# EAGLE library part SPBTLE-RF (library circuit_tree)
IC
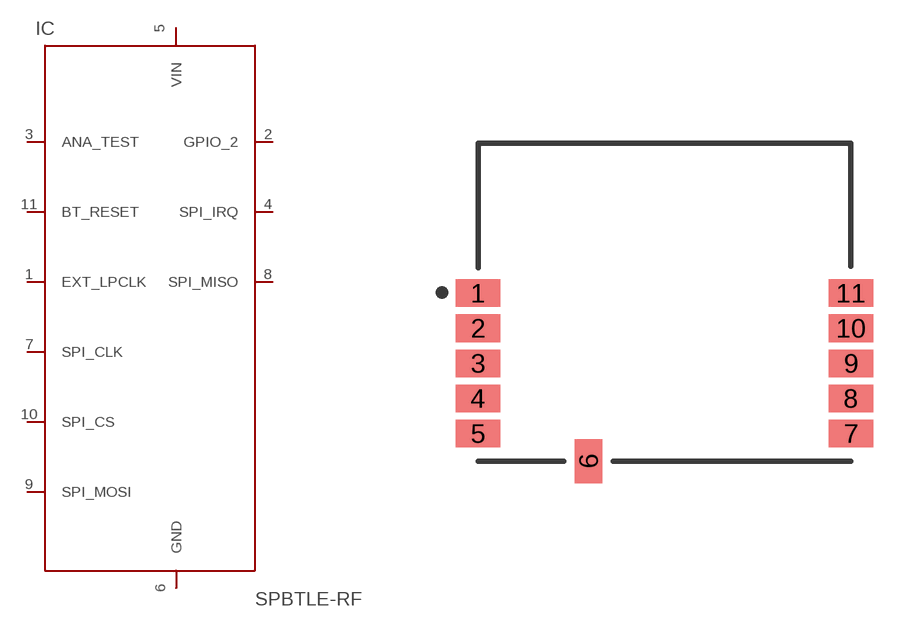
[diagram p5: symbol with the pads of XCVR_SPBTLE-RF; footprint XCVR_SPBTLE-RF]

Designator prefix IC

## SPBTLE-RF  [XCVR_SPBTLE-RF]
1  EXT_LPCLK  pas
2  GPIO_2  pas
3  ANA_TEST  pas
4  SPI_IRQ  pas
5  VIN  pas
6  GND  pas
7  SPI_CLK  pas
8  SPI_MISO  pas
9  SPI_MOSI  pas
10  SPI_CS  pas
11  BT_RESET  pas

## Footprint XCVR_SPBTLE-RF (pad centres in mm)
smd 1.6 x 1: 1 -6.75,0.33; 2 -6.75,-0.94; 3 -6.75,-2.21; 4 -6.75,-3.48; 5 -6.75,-4.75; 7 6.75,-4.75; 8 6.75,-3.48; 9 6.75,-2.21; 10 6.75,-0.94; 11 6.75,0.33
smd 1 x 1.6: 6 -2.75,-5.75